# EAGLE library part 1990834 (library PCB_KioskMB_r3.3-05)
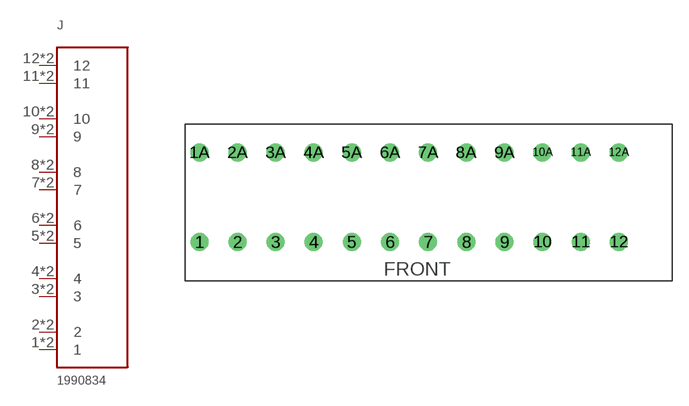
[diagram p31: symbol with the pads of 1990834; footprint 1990834]

Designator prefix J

## 1990834  [1990834]
1  1
1A  1
2  2
2A  2
3  3
3A  3
4  4
4A  4
5  5
5A  5
6  6
6A  6
7  7
7A  7
8  8
8A  8
9  9
9A  9
10  10
10A  10
11  11
11A  11
12  12
12A  12

## Footprint 1990834 (pad centres in mm)
drill 1.1: 1 0,0; 1A 0,8.2; 2 3.5,0; 2A 3.5,8.2; 3 7,0; 3A 7,8.2; 4 10.5,0; 4A 10.5,8.2; 5 14,0; 5A 14,8.2; 6 17.5,0; 6A 17.5,8.2; 7 21,0; 7A 21,8.2; 8 24.5,0; 8A 24.5,8.2; 9 28,0; 9A 28,8.2; 10 31.5,0; 10A 31.5,8.2; 11 35,0; 11A 35,8.2; 12 38.5,0; 12A 38.5,8.2